# Altium schematic symbol library TST-105-01-L-D.SchLib: 1 symbol
Pins are listed as number, name and electrical type; pins without a type are passive.

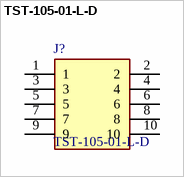
[diagram p0: symbol TST-105-01-L-D]

## TST-105-01-L-D
designator J?
10 Position, Shrouded PCB Headers, 0.100&quot; pitch; Manufacturer_Name: SAMTEC; Mouser Part Number: 200-TST10501LD; Mouser Price/Stock: https://www.mouser.co.uk/ProductDetail/Samtec/TST-105-01-L-D?qs=rU5fayqh%252BE3T4XEa6zyGyQ%3D%3D; Manufacturer_Part_Number: TST-105-01-L-D; Datasheet Link: http://suddendocs.samtec.com/prints/tst-1xx-xx-x-x-xx-xx-mkt.pdf
footprint TST-105-XX-Y-D
pins: 1, 2, 3, 4, 5, 6, 7, 8, 9, 10